# Altium schematic symbol library homecomputer-6502.SCHLIB: 31 symbols
Pins are listed as number, name and electrical type; pins without a type are passive.

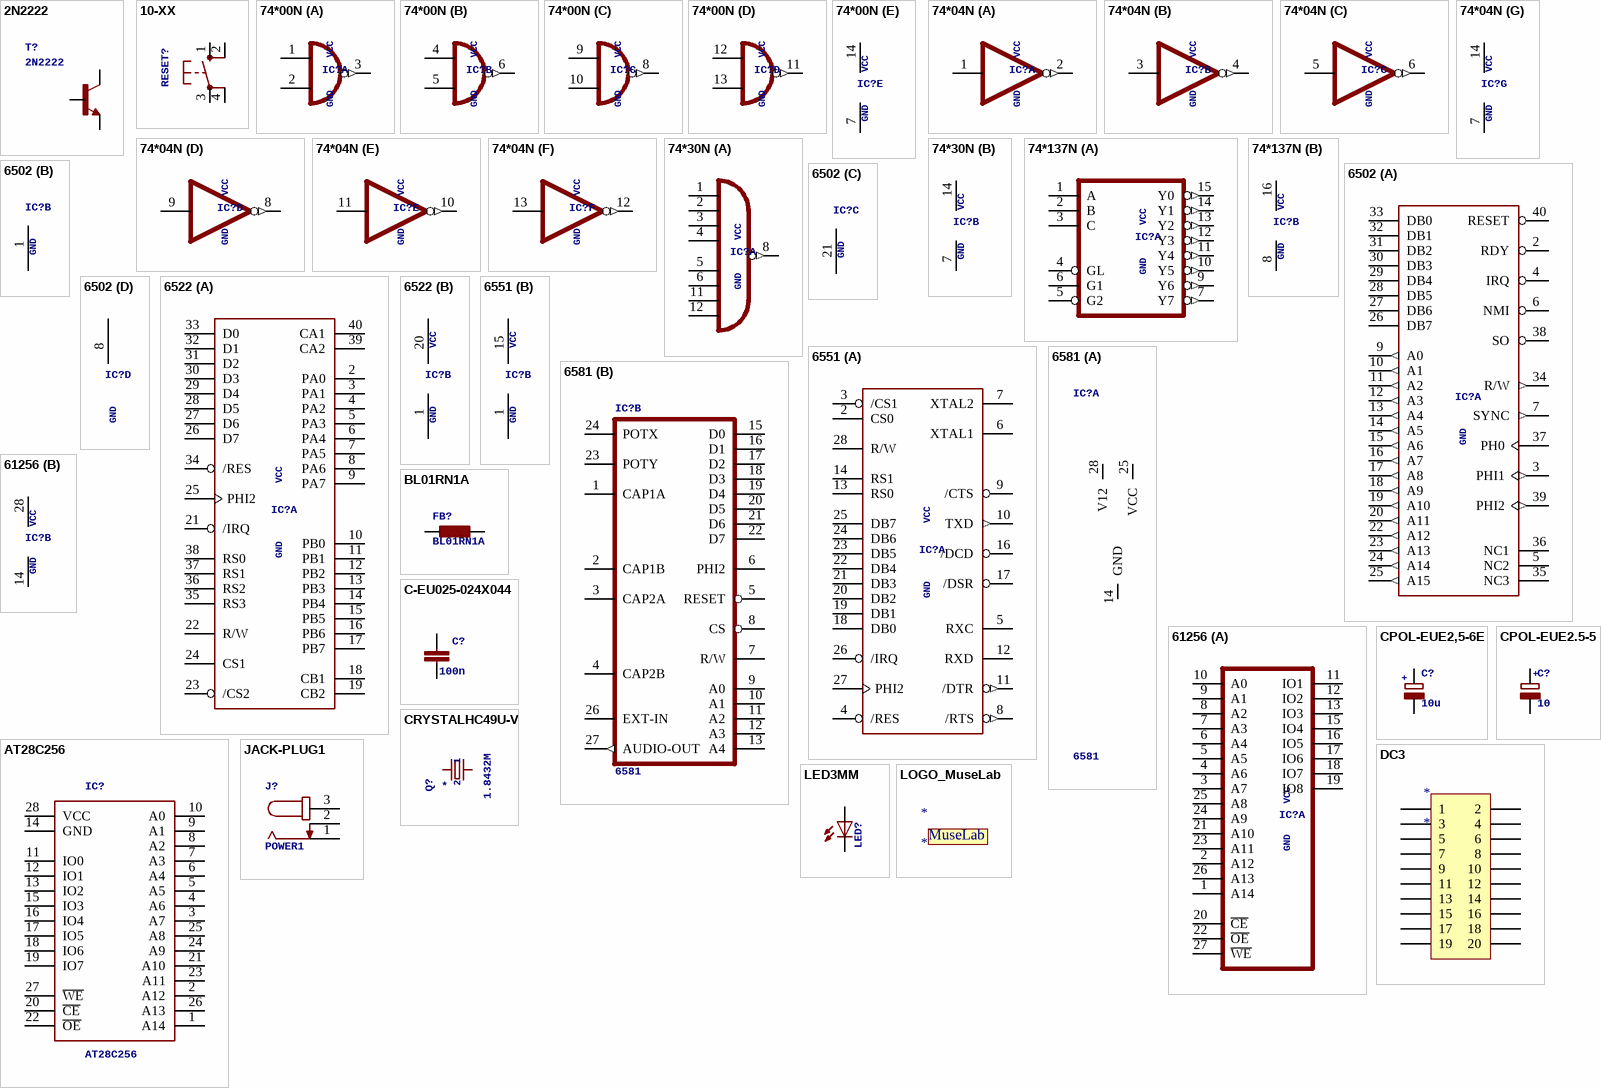
[diagram p0: symbols 2N2222 to LOGO_MuseLab]

## 2N2222
designator T?
NPN TRANSISTOR
footprint TO18
pins: 1 E, 2 B, 3 C

## 10-XX
designator RESET?  (value not drawn)
OMRON SWITCH; MPN: B3F-1000; MF: *; OC_FARNELL: 176432; OC_NEWARK: 36M3542
footprint B3F-10XX
pins: 1 S, 2 S1, 3 P, 4 P1

## 74*00N
designator IC?, comment 74LS00N  (value not drawn)
Quad 2-input NAND gate; GND: GND; VCC: VCC
footprint DIL14
part A pins: 1 I0, 2 I1, 3 O (out)
part B pins: 4 I0, 5 I1, 6 O (out)
part C pins: 8 O (out), 9 I0, 10 I1
part D pins: 11 O (out), 12 I0, 13 I1
part E pins: 7 GND (power), 14 VCC (power)

## 74*04N
designator IC?, comment 74LS04N  (value not drawn)
Hex INVERTER; GND: GND; VCC: VCC
footprint DIL14
part A pins: 1 I, 2 O (out)
part B pins: 3 I, 4 O (out)
part C pins: 5 I, 6 O (out)
part D pins: 8 O (out), 9 I
part E pins: 10 O (out), 11 I
part F pins: 12 O (out), 13 I
part G pins: 7 GND (power), 14 VCC (power)

## 74*30N
designator IC?  (value not drawn)
8-input NAND gate; GND: GND; VCC: VCC
footprint DIL14
part A pins: 1 I0, 2 I1, 3 I2, 4 I3, 5 I4, 6 I5, 8 O (out), 11 I6, 12 I7
part B pins: 7 GND (power), 14 VCC (power)

## 74*137N
designator IC?  (value not drawn)
3-line to 8-line DECODER/DEMULTIPLEXER, address LATCH; GND: GND; VCC: VCC
footprint DIL16
part A pins: 1 A, 2 B, 3 C, 4 GL, 5 G2, 6 G1, 7 Y7 (out), 9 Y6 (out), 10 Y5 (out), 11 Y4 (out), 12 Y3 (out), 13 Y2 (out), 14 Y1 (out), 15 Y0 (out)
part B pins: 8 GND (power), 16 VCC (power)

## 6502
designator IC?  (value not drawn)
6502 processor; GND: GND
footprint DIP40
part A pins: 2 RDY, 3 PHI1 (out), 4 IRQ, 5 NC2, 6 NMI, 7 SYNC (out), 9 A0 (out), 10 A1 (out), 11 A2 (out), 12 A3 (out), 13 A4 (out), 14 A5 (out), 15 A6 (out), 16 A7 (out), 17 A8 (out), 18 A9 (out), 19 A10 (out), 20 A11 (out), 22 A12 (out), 23 A13 (out), 24 A14 (out), 25 A15 (out), 26 DB7, 27 DB6, 28 DB5, 29 DB4, 30 DB3, 31 DB2, 32 DB1, 33 DB0, 34 R/W (out), 35 NC3, 36 NC1, 37 PH0, 38 SO, 39 PHI2 (out), 40 RESET
part B pins: 1 GND (power)
part C pins: 21 GND (power)
part D pins: 8 VCC (power)

## 6522
designator IC?  (value not drawn)
I/O device: two 8-bits ports, handshake lines, timers.; GND: GND; VCC: VCC
footprint DIP40
part A pins: 2 PA0, 3 PA1, 4 PA2, 5 PA3, 6 PA4, 7 PA5, 8 PA6, 9 PA7, 10 PB0, 11 PB1, 12 PB2, 13 PB3, 14 PB4, 15 PB5, 16 PB6, 17 PB7, 18 CB1, 19 CB2, 21 /IRQ (oc), 22 R/W, 23 /CS2, 24 CS1, 25 PHI2, 26 D7, 27 D6, 28 D5, 29 D4, 30 D3, 31 D2, 32 D1, 33 D0, 34 /RES, 35 RS3, 36 RS2, 37 RS1, 38 RS0, 39 CA2, 40 CA1
part B pins: 1 GND (power), 20 VCC (power)

## 6551
designator IC?  (value not drawn)
ACIA. Capable of RS-232; GND: GND; VCC: VCC
footprint DIP28
part A pins: 2 CS0, 3 /CS1, 4 /RES, 5 RXC, 6 XTAL1, 7 XTAL2, 8 /RTS (out), 9 /CTS, 10 TXD (out), 11 /DTR (out), 12 RXD, 13 RS0, 14 RS1, 16 /DCD, 17 /DSR, 18 DB0, 19 DB1, 20 DB2, 21 DB3, 22 DB4, 23 DB5, 24 DB6, 25 DB7, 26 /IRQ (oc), 27 PHI2, 28 R/W
part B pins: 1 GND (power), 15 VCC (power)

## 6581
designator IC?
Sound IC, used in Comoodore 64 and Comoodore 128. 12 Volt Version. 8580 is the 9 Volt pin compatible version used in the C64C.
footprint DIL28
part A pins: 14 GND (power), 25 VCC (power), 28 V12 (power)
part B pins: 1 CAP1A, 2 CAP1B, 3 CAP2A, 4 CAP2B, 5 RESET, 6 PHI2, 7 R/W, 8 CS, 9 A0, 10 A1, 11 A2, 12 A3, 13 A4, 15 D0 (hiz), 16 D1 (hiz), 17 D2 (hiz), 18 D3 (hiz), 19 D4 (hiz), 20 D5 (hiz), 21 D6 (hiz), 22 D7 (hiz), 23 POTY, 24 POTX, 26 EXT-IN, 27 AUDIO-OUT (out)

## 61256
designator IC?  (value not drawn)
MEMORY; GND: GND; VCC: VCC
footprint DIL28-3
part A pins: 1 A14, 2 A12, 3 A7, 4 A6, 5 A5, 6 A4, 7 A3, 8 A2, 9 A1, 10 A0, 11 IO1 (hiz), 12 IO2 (hiz), 13 IO3 (hiz), 15 IO4 (hiz), 16 IO5 (hiz), 17 IO6 (hiz), 18 IO7 (hiz), 19 IO8 (hiz), 20 ~{CE}, 21 A10, 22 ~{OE}, 23 A11, 24 A9, 25 A8, 26 A13, 27 ~{WE}
part B pins: 14 GND (power), 28 VCC (power)

## AT28C256
designator IC?
EEPROM 32Kx8 256k bit   The AT28C256 is a high-performance Electrically Erasable and Programmable Read Only Memory. Its 256K of memory is organized as 32,768 words by 8 bits.
footprint DIL28-6
pins: 1 A14, 2 A12, 3 A7, 4 A6, 5 A5, 6 A4, 7 A3, 8 A2, 9 A1, 10 A0, 11 IO0, 12 IO1, 13 IO2, 14 GND, 15 IO3, 16 IO4, 17 IO5, 18 IO6, 19 IO7, 20 ~{CE}, 21 A10, 22 ~{OE}, 23 A11, 24 A9, 25 A8, 26 A13, 27 ~{WE}, 28 VCC

## BL01RN1A
designator FB?
Noise Suppression Products/EMI Suppression Filters, Lead EMIFIL(R) Inductor Type   Source: http://www.murata.com .. BL01RN1_DS.pdf
footprint BL01RN1A
pins: 1, 2

## C-EU025-024X044
designator C?, comment 100n
CAPACITOR, European symbol
footprint C025-024X044
pins: 1, 2

## CPOL-EUE2,5-6E
designator C?, comment 10u
POLARIZED CAPACITOR, European symbol; +: +
footprint E2,5-6E
pins: +, -

## CPOL-EUE2.5-5
designator C?, comment 10
POLARIZED CAPACITOR, European symbol; +: +
footprint E2,5-5
pins: +, -

## CRYSTALHC49U-V
designator Q?, comment 1.8432M
CRYSTAL; MF: *; MPN: *; NAME: *; OC_FARNELL: 1666969; OC_NEWARK: unknown; 1: 1; 2: 2
footprint HC49U-V
pins: 1, 2

## DC3
designator *
pins: 1, 2, 3, 4, 5, 6, 7, 8, 9, 10, 11, 12, 13, 14, 15, 16, 17, 18, 19, 20

## JACK-PLUG1
designator J?, comment POWER1
DC POWER JACK Power Jack, DC, Right Angle, Through Hole, Rated 5A at 16VDC, PC Terminals   Distributor: Farnell (www.Farnell.de) Drawing: 84N1161.pdf / 84N1162.pdf Manufacturer: SPC Technology (www.spctechnology.com) Type: SPC4077 / SPC 4078; MF: *; MPN: *; OC_FARNELL: unknown; OC_NEWARK: unknown
footprint SPC4078
pins: 1, 2, 3

## LED3MM
designator LED?  (value not drawn)
LED   OSRAM: - CHIPLED LG R971, LG N971, LY N971, LG Q971, LY Q971, LO R971, LY R971 LH N974, LH R974 LS Q976, LO Q976, LY Q976 LO Q996 - Hyper CHIPLED LW Q18S LB Q993, LB Q99A, LB R99A - SideLED LS A670, LO A670, LY A670, LG A670, LP A670 LB A673, LV A673, LT A673, LW A673 LH A674 LY A675 LS A676, LA A676, LO A676, LY A676, LW A676 LS A679, LY A679, LG A679 -  Hyper Micro SIDELED庐 LS Y876, LA Y876, LO Y876, LY Y876 LT Y87S - SmartLED LW L88C, LW L88S LB L89C, LB L89S, LG L890 LS L89K, LO L89K, LY L89K LS L896, LA L896, LO L896, LY L896 - TOPLED LS T670, LO T670, LY T670, LG T670, LP T670 LSG T670, LSP T670, LSY T670, LOP T670, LYG T670 LG T671, LOG T671, LSG T671 LB T673, LV T673, LT T673, LW T673 LH T674 LS T676, LA T676, LO T676, LY T676, LB T676, LH T676, LSB T676, LW T676 LB T67C, LV T67C, LT T67C, LS T67K, LO T67K, LY T67K, LW E67C LS E67B, LA E67B, LO E67B, LY E67B, LB E67C, LV E67C, LT E67C LW T67C LS T679, LY T679, LG T679 LS T770, LO T770, LY T770, LG T770, LP T770 LB T773, LV T773, LT T773, LW T773 LH T774 LS E675, LA E675, LY E675, LS T675 LS T776, LA T776, LO T776, LY T776, LB T776 LHGB T686 LT T68C, LB T68C - Hyper Mini TOPLED庐 LB M676 - Mini TOPLED Santana庐 LG M470 LS M47K, LO M47K, LY M47K    Source: http://www.osram.convergy.de   LUXEON: - LUMILED庐 LXK2-PW12-R00, LXK2-PW12-S00, LXK2-PW14-U00, LXK2-PW14-V00 LXK2-PM12-R00, LXK2-PM12-S00, LXK2-PM14-U00 LXK2-PE12-Q00, LXK2-PE12-R00, LXK2-PE12-S00, LXK2-PE14-T00, LXK2-PE14-U00 LXK2-PB12-K00, LXK2-PB12-L00, LXK2-PB12-M00, LXK2-PB14-N00, LXK2-PB14-P00, LXK2-PB14-Q00 LXK2-PR12-L00, LXK2-PR12-M00, LXK2-PR14-Q00, LXK2-PR14-R00 LXK2-PD12-Q00, LXK2-PD12-R00, LXK2-PD12-S00 LXK2-PH12-R00, LXK2-PH12-S00 LXK2-PL12-P00, LXK2-PL12-Q00, LXK2-PL12-R00    Source: www.luxeon.com   KINGBRIGHT:   KA-3528ASYC Source: www.kingbright.com
footprint LED3MM
pins: A, K C

## LOGO_MuseLab
designator *
footprint LOGO_MUSELAB
text: MuseLab

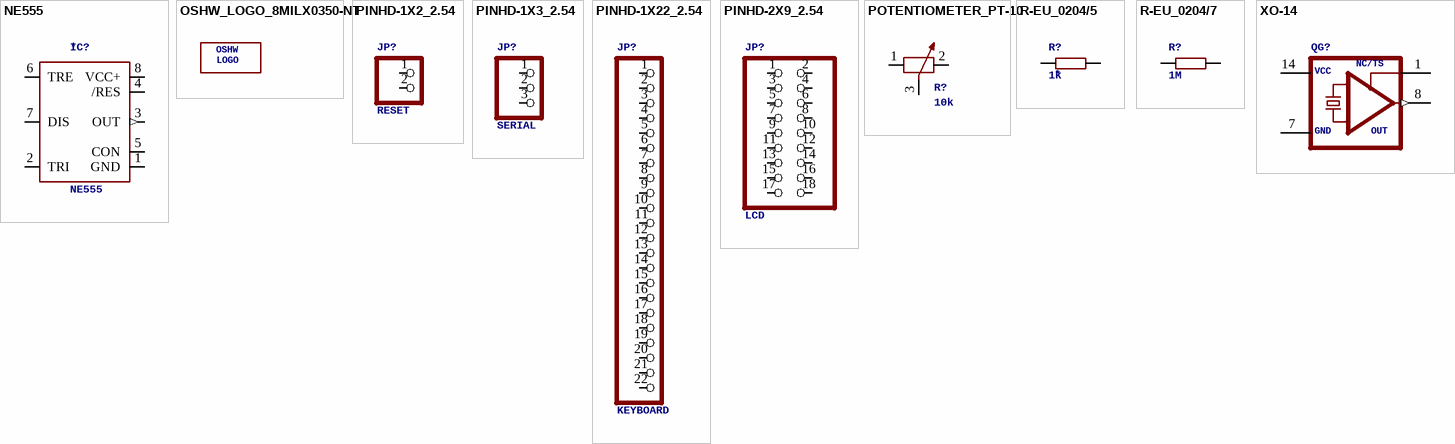
[diagram p1: symbols NE555 to XO-14]

## NE555
designator IC?
General purpose bipolar Timer; MPN: NE555N; MF: Arrow Electronics; NAME: *; OC_FARNELL: 1467742; OC_NEWARK: 89K1486
footprint DIL-08
pins: 1 GND (power), 2 TRI, 3 OUT (out), 4 /RES, 5 CON, 6 TRE, 7 DIS, 8 VCC+ (power)

## OSHW_LOGO_8MILX0350-NT
designator LOGO?  (value not drawn)
OSHW: OSHW; LOGO: LOGO
footprint OSHW_8X350_NOTEXT

## PINHD-1X2_2.54
designator JP?, comment RESET
PIN HEADER
footprint 1X02
pins: 1, 2

## PINHD-1X3_2.54
designator JP?, comment SERIAL
PIN HEADER
footprint 1X03
pins: 1, 2, 3

## PINHD-1X22_2.54
designator JP?, comment KEYBOARD
PIN HEADER
footprint 1X22
pins: 1, 2, 3, 4, 5, 6, 7, 8, 9, 10, 11, 12, 13, 14, 15, 16, 17, 18, 19, 20, 21, 22

## PINHD-2X9_2.54
designator JP?, comment LCD
PIN HEADER
footprint 2X09
pins: 1, 2, 3, 4, 5, 6, 7, 8, 9, 10, 11, 12, 13, 14, 15, 16, 17, 18

## POTENTIOMETER_PT-10
designator R?, comment 10k
Potentiometer
footprint PT-10
pins: 1, 2, 3

## R-EU_0204/5
designator R?, comment 1k
RESISTOR, European symbol; NAME: *
footprint 0204/5
pins: 1, 2

## R-EU_0204/7
designator R?, comment 1M
RESISTOR, European symbol
footprint 0204/7
pins: 1, 2

## XO-14
designator QG?  (value not drawn)
CRYSTAL; OUT: OUT; GND: GND; VCC: VCC; NC/TS: NC/TS
footprint DIL14S
pins: 1 TS, 7 GND (power), 8 OUT (out), 14 VCC (power)